# EAGLE library part CON05X2 (library Connectors)
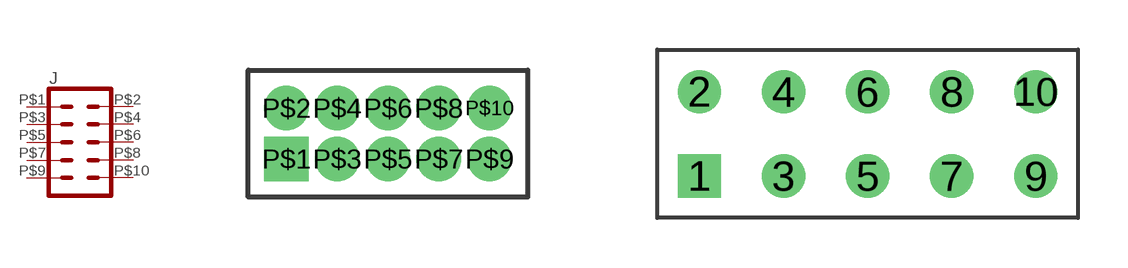
[diagram p2: symbol with the pads of CON05X2_PTH_1.27MM; footprints CON05X2_PTH_1.27MM, CON05X2-2.54MM]

Designator prefix J

## CON05X2PTH_1.27MM  [CON05X2_PTH_1.27MM]
P$1  1  pas
P$2  2  pas
P$3  3  pas
P$4  4  pas
P$5  5  pas
P$6  6  pas
P$7  7  pas
P$8  8  pas
P$9  9  pas
P$10  10  pas

## CON05X2PTH  [CON05X2-2.54MM]
1  1  pas
2  2  pas
3  3  pas
4  4  pas
5  5  pas
6  6  pas
7  7  pas
8  8  pas
9  9  pas
10  10  pas

## CON05X2SOCKET_PTH  [SOCKET05X2]
Pads as for CON05X2-2.54MM

## Footprint CON05X2_PTH_1.27MM (pad centres in mm)
drill 0.6 square: P$1 -2.54,-0.635
drill 0.6: P$2 -2.54,0.635; P$3 -1.27,-0.635; P$4 -1.27,0.635; P$5 0,-0.635; P$6 0,0.635; P$7 1.27,-0.635; P$8 1.27,0.635; P$9 2.54,-0.635; P$10 2.54,0.635

## Footprint CON05X2-2.54MM (pad centres in mm)
drill 0.8 square: 1 -5.08,-1.27
drill 0.8: 2 -5.08,1.27; 3 -2.54,-1.27; 4 -2.54,1.27; 5 0,-1.27; 6 0,1.27; 7 2.54,-1.27; 8 2.54,1.27; 9 5.08,-1.27; 10 5.08,1.27

## Footprint SOCKET05X2 (pad centres in mm)
drill 0.8 square: 1 -5.08,-1.27
drill 0.8: 2 -5.08,1.27; 3 -2.54,-1.27; 4 -2.54,1.27; 5 0,-1.27; 6 0,1.27; 7 2.54,-1.27; 8 2.54,1.27; 9 5.08,-1.27; 10 5.08,1.27